# Altium footprint library PcbLib1.PcbLib: 9 footprints
Each footprint in its own frame and in the unit in brackets; x right, y up, seen from the top. Pads: shape width x height; smd on the part's side, far side on the other; paste and mask are expansions set on the pad; w line width, h text height; cw(c..) or ccw(c..) is an arc to the next point about the centre after c.
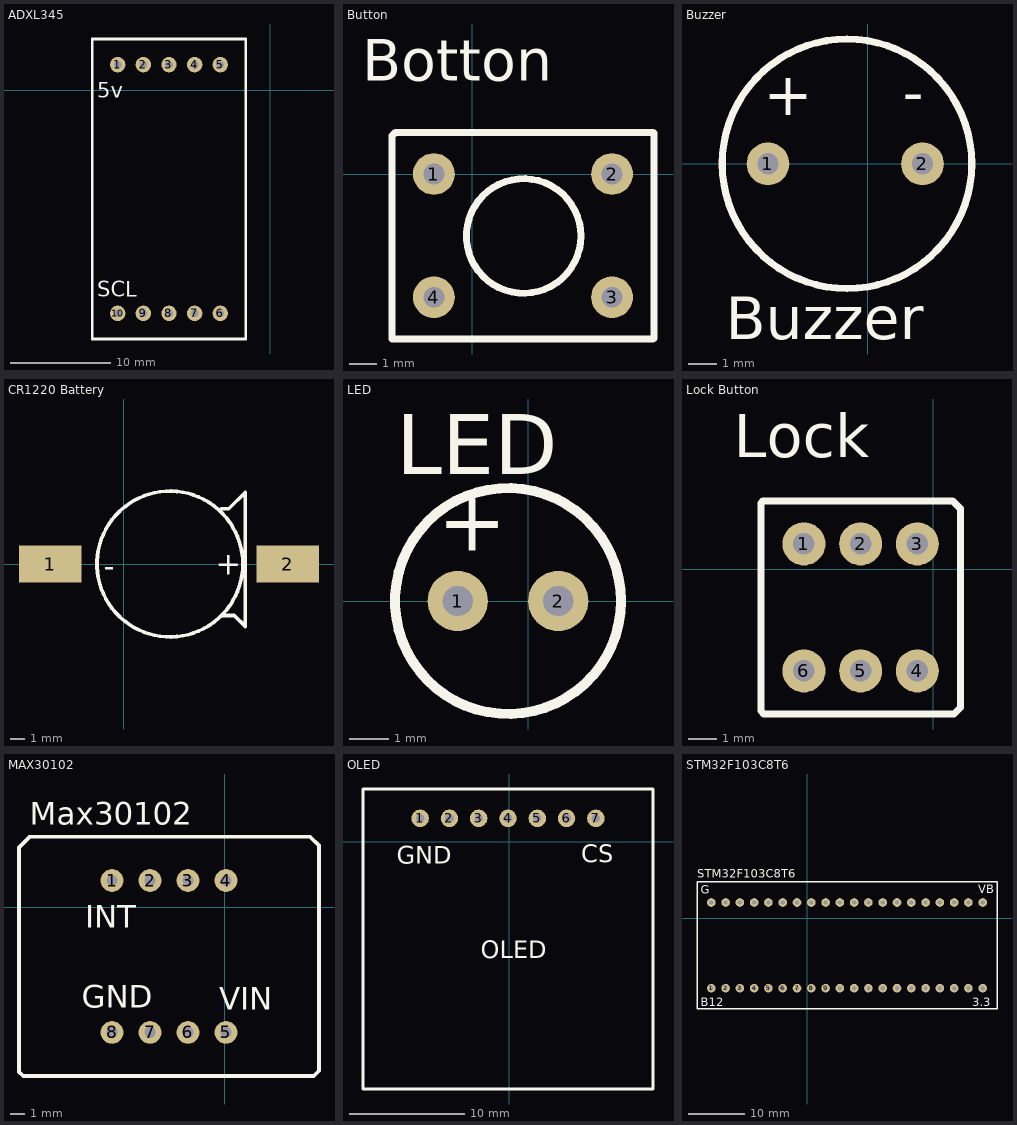
[diagram p0: the footprints below, top view; thin cyan lines are the x and y axes]

## ADXL345 [mil]
pads (10):
  round 60 hole 30: 1(-595,100) 2(-495,100) 3(-395,100) 4(-295,100) 5(-195,100) 6(-195,-870) 7(-295,-870) 8(-395,-870) 9(-495,-870) 10(-595,-870)
Top Overlay:
  lines w10: -695,-970 -695,-955 -695,100 -695,200 -595,200 -145,200 -95,200 -95,-870 -95,-970 -195,-970 -695,-970
  text "5v" at -675,-30 h60
  text "SCL" at -675,-805 h60

## Button [mil]
pads (4):
  round 60 hole 30: 1(-55,0) 2(201,0) 3(201,-177) 4(-55,-177)
Top Overlay:
  circle w10: c74,-89 r82.29
  lines w10: -115,-237 -115,-229 -115,0 -115,55 -110,60 -55,60 249,60 260,60 261,59 261,48 261,-177 261,-236 260,-237 201,-237 -107,-237 -115,-237
  text "Botton" at -158,134 h60

## Buzzer [mil]
pads (2):
  round 60 hole 30: 1(-140,0) 2(77,0)
Top Overlay:
  circle w10: c-29,0 r175.21
  text "Buzzer" at -199,-246 h60
  text "-" at 49,72 h60
  text "+" at -146,68 h60

## CR1220 Battery [mil]
pads (2):
  rect 170x100 smd: 1(-200,0) 2(445,0)
Top Overlay:
  circle w10: c125,0 r198.12
  lines w10: 265,150 285,150 330,195 330,-170 300,-140 270,-140
  text "+" at 249,-29 h60
  text "-" at -55,-34 h60

## LED [mil]
pads (2):
  round 60 hole 30: 1(-70,0) 2(30,0)
Top Overlay:
  circle w10: c-20,0 r112.36
  text "LED" at -131,126 h60
  text "+" at -90,50 h60

## Lock Button [mil]
pads (6):
  round 60 hole 30: 1(-180,35) 2(-101,35) 3(-22,35) 4(-22,-142) 5(-101,-142) 6(-180,-142)
Top Overlay:
  lines w10: -240,-198 -236,-202 29,-202 38,-193 38,84 27,95 -22,95 -237,95 -240,92 -240,-198
  text "Lock" at -278,156 h60

## MAX30102 [mil]
pads (8):
  round 60 hole 30: 1(-297,70) 2(-197,70) 3(-97,70) 4(3,70) 5(3,-330) 6(-97,-330) 7(-197,-330) 8(-297,-330)
Top Overlay:
  lines w10: -542,-434 -531,-445 -297,-445 234,-445 248,-431 248,162 225,185 50,185 -514,185 -542,157 -542,-434
  text "Max30102" at -514,217 h60
  text "INT" at -368,-55 h60
  text "GND" at -377,-265 h60
  text "VIN" at -15,-270 h60

## OLED [mil]
pads (7):
  round 60 hole 30: 1(-305,80) 2(-205,80) 3(-105,80) 4(-5,80) 5(95,80) 6(195,80) 7(295,80)
Top Overlay:
  lines w10: -500,-845 425,-845 490,-845 490,80 490,180 295,180 -305,180 -500,180 -500,80 -500,-845
  text "CS" at 245,-70 h60
  text "GND" at -385,-75 h60
  text "OLED" at -98,-398 h60

## STM32F103C8T6 [mil]
pads (40):
  round 60 hole 30: 1(-670,-490) 2(-570,-490) 3(-470,-490) 4(-370,-490) 5(-270,-490) 6(-170,-490) 7(-70,-490) 8(30,-490) 9(130,-490) 10(230,-490) 11(330,-490) 12(430,-490) 13(530,-490) 14(630,-490) 15(730,-490) 16(830,-490) 17(930,-490) 18(1030,-490) 19(1130,-490) 20(1230,-490) 21(1230,110) 22(1130,110) 23(1030,110) 24(930,110) 25(830,110) 26(730,110) 27(630,110) 28(530,110) 29(430,110) 30(330,110) 31(230,110) 32(130,110) 33(30,110) 34(-70,110) 35(-170,110) 36(-270,110) 37(-370,110) 38(-470,110) 39(-570,110) 40(-670,110)
Top Overlay:
  lines w10: -770,-635 1330,-635 1330,110 1330,255 -670,255 -770,255 -770,110 -770,-635
  text "G" at -745,170 h60
  text "B12" at -745,-615 h60
  text "VB" at 1200,175 h60
  text "3.3" at 1155,-615 h60
  text "STM32F103C8T6" at -767,284 h60